# Altium integrated library TantPolyCapacitors.IntLib: 2 symbols
Pins are listed as number, name and electrical type; pins without a type are passive.

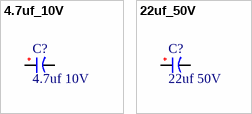
[diagram p0: symbols 4.7uf_10V to 22uf_50V]

## 4.7uf_10V
designator C?, comment 4.7uf 10V
Cap Tant Poly 4.7uf 10V 0805; Manufacturer 1: AVX; Manufacturer Part Number 1: TCJR475M010R0500
footprint 0805
pins: 1, 2

## 22uf_50V
designator C?, comment 22uf 50V
CAP TANTALUM Poly 22UF 50V 2917; Manufacturer 1: KEMET; Manufacturer Part Number 1: T521X226M050ATE075
footprint CAPC7343X43N (Chip Capacitor, 2-Leads, Body 7.30x4.30mm, IPC Medium Density)
pins: 1, 2